# Altium schematic symbol library USB-A.SchLib: 1 symbol
Pins are listed as number, name and electrical type; pins without a type are passive.

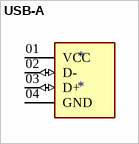
[diagram p0: symbol USB-A]

## USB-A
designator *
footprint USB
pins: 01 VCC (power), 02 D- (io), 03 D+ (io), 04 GND (power)